# Altium schematic symbol library 3.5inch_UNO.SCHLIB: 1 symbol
Pins are listed as number, name and electrical type; pins without a type are passive.

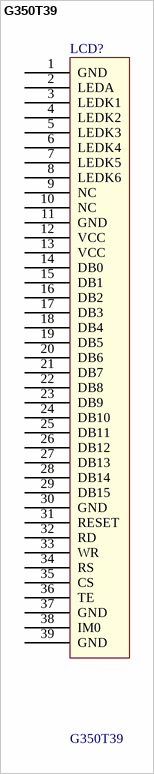
[diagram p0: symbol G350T39]

## G350T39
designator LCD?
footprint G350T39
pins: 1 GND, 2 LEDA, 3 LEDK1, 4 LEDK2, 5 LEDK3, 6 LEDK4, 7 LEDK5, 8 LEDK6, 9 NC, 10 NC, 11 GND, 12 VCC, 13 VCC, 14 DB0, 15 DB1, 16 DB2, 17 DB3, 18 DB4, 19 DB5, 20 DB6, 21 DB7, 22 DB8, 23 DB9, 24 DB10, 25 DB11, 26 DB12, 27 DB13, 28 DB14, 29 DB15, 30 GND, 31 RESET, 32 RD, 33 WR, 34 RS, 35 CS, 36 TE, 37 GND, 38 IM0, 39 GND